# Altium schematic symbol library SCH - MCU - STM32 - ST MICROELECTRONICS STM32F469B(E-G-I)TX LQFP208.SchLib: 1 symbol
Pins are listed as number, name and electrical type; pins without a type are passive.

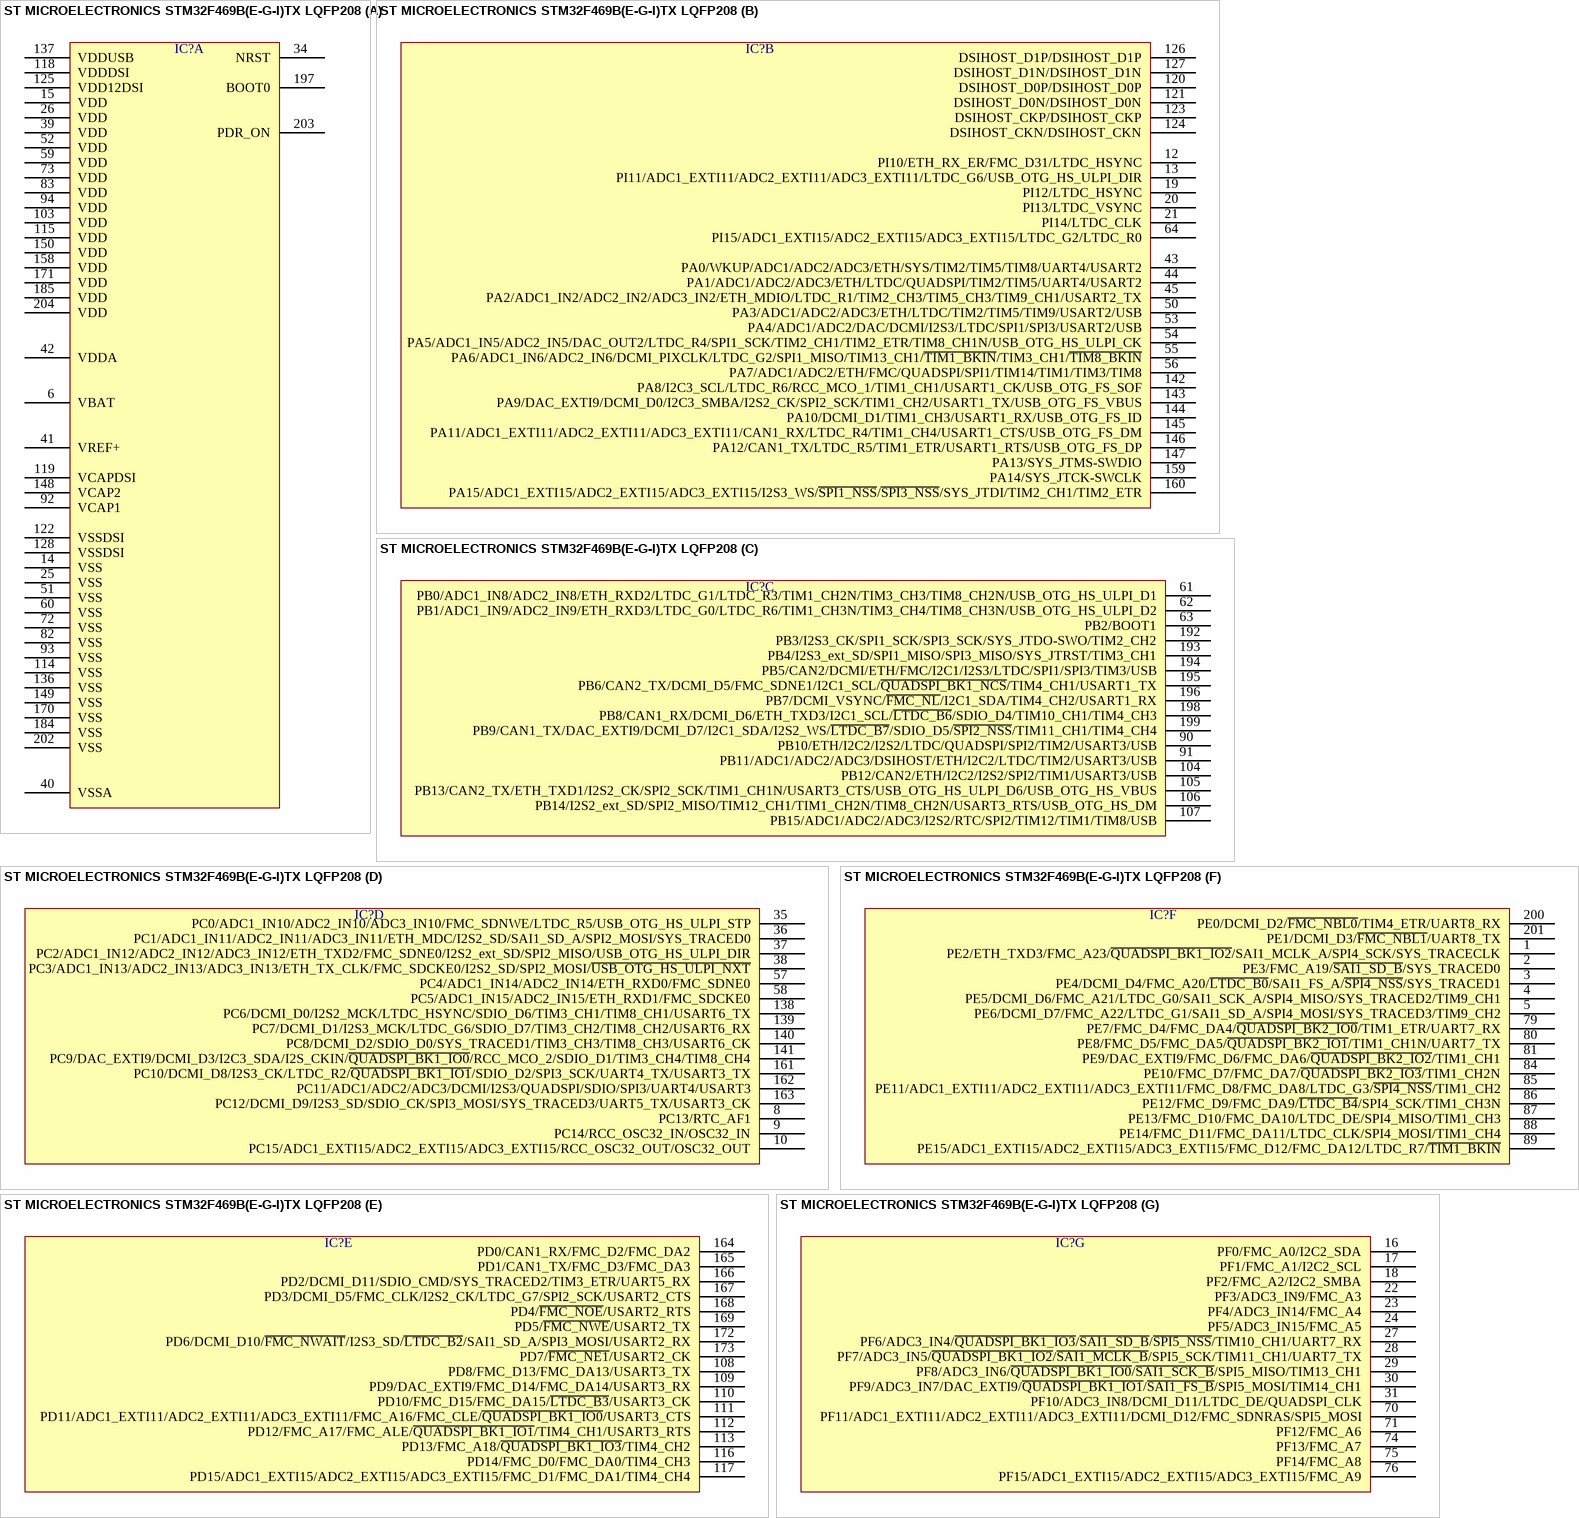
[diagram p0: symbol ST MICROELECTRONICS STM32F469B(E-G-I)TX LQFP208]

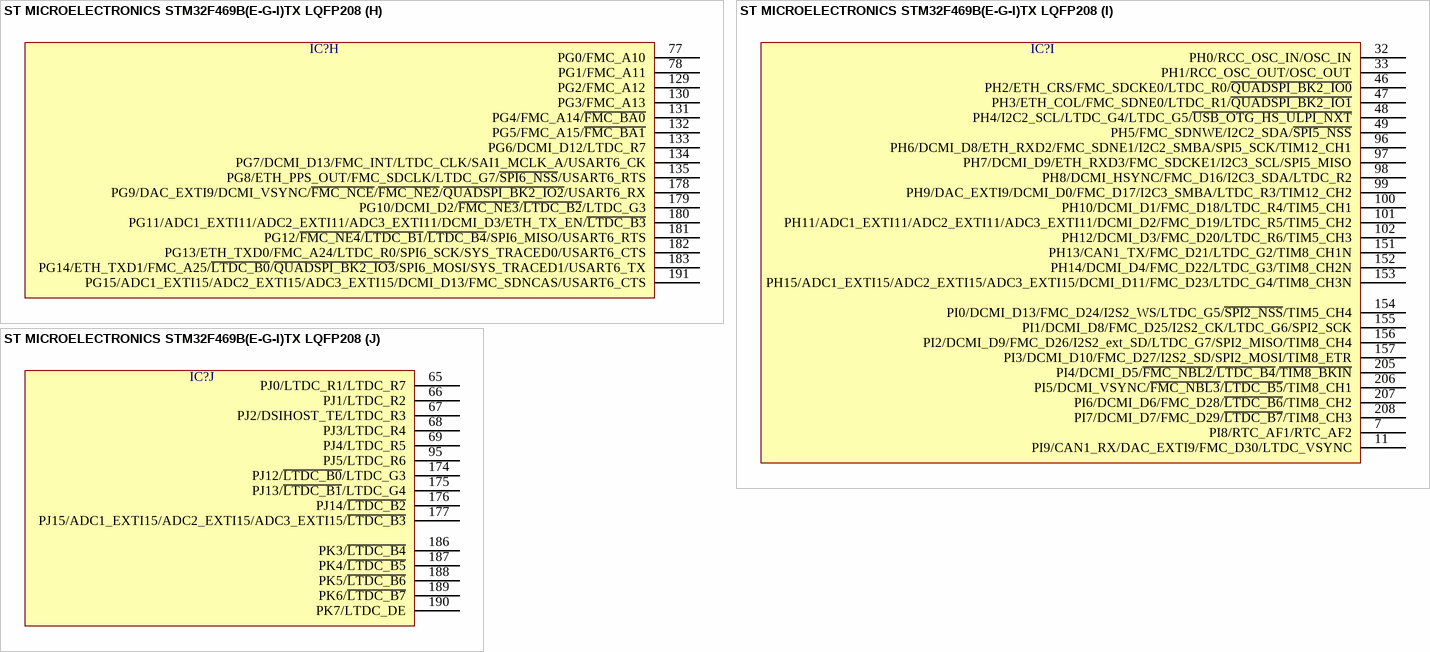
[diagram p1: symbol ST MICROELECTRONICS STM32F469B(E-G-I)TX LQFP208]

## ST MICROELECTRONICS STM32F469B(E-G-I)TX LQFP208
designator IC?  (value not drawn)
part A pins: 6 VBAT, 14 VSS, 15 VDD, 25 VSS, 26 VDD, 34 NRST, 39 VDD, 40 VSSA, 41 VREF+, 42 VDDA, 51 VSS, 52 VDD, 59 VDD, 60 VSS, 72 VSS, 73 VDD, 82 VSS, 83 VDD, 92 VCAP1, 93 VSS, 94 VDD, 103 VDD, 114 VSS, 115 VDD, 118 VDDDSI, 119 VCAPDSI, 122 VSSDSI, 125 VDD12DSI, 128 VSSDSI, 136 VSS, 137 VDDUSB, 148 VCAP2, 149 VSS, 150 VDD, 158 VDD, 170 VSS, 171 VDD, 184 VSS, 185 VDD, 197 BOOT0, 202 VSS, 203 PDR_ON, 204 VDD
part B pins: 12 PI10/ETH_RX_ER/FMC_D31/LTDC_HSYNC, 13 PI11/ADC1_EXTI11/ADC2_EXTI11/ADC3_EXTI11/LTDC_G6/USB_OTG_HS_ULPI_DIR, 19 PI12/LTDC_HSYNC, 20 PI13/LTDC_VSYNC, 21 PI14/LTDC_CLK, 43 PA0/WKUP/ADC1/ADC2/ADC3/ETH/SYS/TIM2/TIM5/TIM8/UART4/USART2, 44 PA1/ADC1/ADC2/ADC3/ETH/LTDC/QUADSPI/TIM2/TIM5/UART4/USART2, 45 PA2/ADC1_IN2/ADC2_IN2/ADC3_IN2/ETH_MDIO/LTDC_R1/TIM2_CH3/TIM5_CH3/TIM9_CH1/USART2_TX, 50 PA3/ADC1/ADC2/ADC3/ETH/LTDC/TIM2/TIM5/TIM9/USART2/USB, 53 PA4/ADC1/ADC2/DAC/DCMI/I2S3/LTDC/SPI1/SPI3/USART2/USB, 54 PA5/ADC1_IN5/ADC2_IN5/DAC_OUT2/LTDC_R4/SPI1_SCK/TIM2_CH1/TIM2_ETR/TIM8_CH1N/USB_OTG_HS_ULPI_CK, 55 PA6/ADC1_IN6/ADC2_IN6/DCMI_PIXCLK/LTDC_G2/SPI1_MISO/TIM13_CH1/~{TIM1_BKIN}/TIM3_CH1/~{TIM8_BKIN}, 56 PA7/ADC1/ADC2/ETH/FMC/QUADSPI/SPI1/TIM14/TIM1/TIM3/TIM8, 64 PI15/ADC1_EXTI15/ADC2_EXTI15/ADC3_EXTI15/LTDC_G2/LTDC_R0, 120 DSIHOST_D0P/DSIHOST_D0P, 121 DSIHOST_D0N/DSIHOST_D0N, 123 DSIHOST_CKP/DSIHOST_CKP, 124 DSIHOST_CKN/DSIHOST_CKN, 126 DSIHOST_D1P/DSIHOST_D1P, 127 DSIHOST_D1N/DSIHOST_D1N, 142 PA8/I2C3_SCL/LTDC_R6/RCC_MCO_1/TIM1_CH1/USART1_CK/USB_OTG_FS_SOF, 143 PA9/DAC_EXTI9/DCMI_D0/I2C3_SMBA/I2S2_CK/SPI2_SCK/TIM1_CH2/USART1_TX/USB_OTG_FS_VBUS, 144 PA10/DCMI_D1/TIM1_CH3/USART1_RX/USB_OTG_FS_ID, 145 PA11/ADC1_EXTI11/ADC2_EXTI11/ADC3_EXTI11/CAN1_RX/LTDC_R4/TIM1_CH4/USART1_CTS/USB_OTG_FS_DM, 146 PA12/CAN1_TX/LTDC_R5/TIM1_ETR/USART1_RTS/USB_OTG_FS_DP, 147 PA13/SYS_JTMS-SWDIO, 159 PA14/SYS_JTCK-SWCLK, 160 PA15/ADC1_EXTI15/ADC2_EXTI15/ADC3_EXTI15/I2S3_WS/~{SPI1_NSS}/~{SPI3_NSS}/SYS_JTDI/TIM2_CH1/TIM2_ETR
part C pins: 61 PB0/ADC1_IN8/ADC2_IN8/ETH_RXD2/LTDC_G1/LTDC_R3/TIM1_CH2N/TIM3_CH3/TIM8_CH2N/USB_OTG_HS_ULPI_D1, 62 PB1/ADC1_IN9/ADC2_IN9/ETH_RXD3/LTDC_G0/LTDC_R6/TIM1_CH3N/TIM3_CH4/TIM8_CH3N/USB_OTG_HS_ULPI_D2, 63 PB2/BOOT1, 90 PB10/ETH/I2C2/I2S2/LTDC/QUADSPI/SPI2/TIM2/USART3/USB, 91 PB11/ADC1/ADC2/ADC3/DSIHOST/ETH/I2C2/LTDC/TIM2/USART3/USB, 104 PB12/CAN2/ETH/I2C2/I2S2/SPI2/TIM1/USART3/USB, 105 PB13/CAN2_TX/ETH_TXD1/I2S2_CK/SPI2_SCK/TIM1_CH1N/USART3_CTS/USB_OTG_HS_ULPI_D6/USB_OTG_HS_VBUS, 106 PB14/I2S2_ext_SD/SPI2_MISO/TIM12_CH1/TIM1_CH2N/TIM8_CH2N/USART3_RTS/USB_OTG_HS_DM, 107 PB15/ADC1/ADC2/ADC3/I2S2/RTC/SPI2/TIM12/TIM1/TIM8/USB, 192 PB3/I2S3_CK/SPI1_SCK/SPI3_SCK/SYS_JTDO-SWO/TIM2_CH2, 193 PB4/I2S3_ext_SD/SPI1_MISO/SPI3_MISO/SYS_JTRST/TIM3_CH1, 194 PB5/CAN2/DCMI/ETH/FMC/I2C1/I2S3/LTDC/SPI1/SPI3/TIM3/USB, 195 PB6/CAN2_TX/DCMI_D5/FMC_SDNE1/I2C1_SCL/~{QUADSPI_BK1_NCS}/TIM4_CH1/USART1_TX, 196 PB7/DCMI_VSYNC/~{FMC_NL}/I2C1_SDA/TIM4_CH2/USART1_RX, 198 PB8/CAN1_RX/DCMI_D6/ETH_TXD3/I2C1_SCL/~{LTDC_B6}/SDIO_D4/TIM10_CH1/TIM4_CH3, 199 PB9/CAN1_TX/DAC_EXTI9/DCMI_D7/I2C1_SDA/I2S2_WS/~{LTDC_B7}/SDIO_D5/~{SPI2_NSS}/TIM11_CH1/TIM4_CH4
part D pins: 8 PC13/RTC_AF1, 9 PC14/RCC_OSC32_IN/OSC32_IN, 10 PC15/ADC1_EXTI15/ADC2_EXTI15/ADC3_EXTI15/RCC_OSC32_OUT/OSC32_OUT, 35 PC0/ADC1_IN10/ADC2_IN10/ADC3_IN10/FMC_SDNWE/LTDC_R5/USB_OTG_HS_ULPI_STP, 36 PC1/ADC1_IN11/ADC2_IN11/ADC3_IN11/ETH_MDC/I2S2_SD/SAI1_SD_A/SPI2_MOSI/SYS_TRACED0, 37 PC2/ADC1_IN12/ADC2_IN12/ADC3_IN12/ETH_TXD2/FMC_SDNE0/I2S2_ext_SD/SPI2_MISO/USB_OTG_HS_ULPI_DIR, 38 PC3/ADC1_IN13/ADC2_IN13/ADC3_IN13/ETH_TX_CLK/FMC_SDCKE0/I2S2_SD/SPI2_MOSI/~{USB_OTG_HS_ULPI_NXT}, 57 PC4/ADC1_IN14/ADC2_IN14/ETH_RXD0/FMC_SDNE0, 58 PC5/ADC1_IN15/ADC2_IN15/ETH_RXD1/FMC_SDCKE0, 138 PC6/DCMI_D0/I2S2_MCK/LTDC_HSYNC/SDIO_D6/TIM3_CH1/TIM8_CH1/USART6_TX, 139 PC7/DCMI_D1/I2S3_MCK/LTDC_G6/SDIO_D7/TIM3_CH2/TIM8_CH2/USART6_RX, 140 PC8/DCMI_D2/SDIO_D0/SYS_TRACED1/TIM3_CH3/TIM8_CH3/USART6_CK, 141 PC9/DAC_EXTI9/DCMI_D3/I2C3_SDA/I2S_CKIN/~{QUADSPI_BK1_IO0}/RCC_MCO_2/SDIO_D1/TIM3_CH4/TIM8_CH4, 161 PC10/DCMI_D8/I2S3_CK/LTDC_R2/~{QUADSPI_BK1_IO1}/SDIO_D2/SPI3_SCK/UART4_TX/USART3_TX, 162 PC11/ADC1/ADC2/ADC3/DCMI/I2S3/QUADSPI/SDIO/SPI3/UART4/USART3, 163 PC12/DCMI_D9/I2S3_SD/SDIO_CK/SPI3_MOSI/SYS_TRACED3/UART5_TX/USART3_CK
part E pins: 108 PD8/FMC_D13/FMC_DA13/USART3_TX, 109 PD9/DAC_EXTI9/FMC_D14/FMC_DA14/USART3_RX, 110 PD10/FMC_D15/FMC_DA15/~{LTDC_B3}/USART3_CK, 111 PD11/ADC1_EXTI11/ADC2_EXTI11/ADC3_EXTI11/FMC_A16/FMC_CLE/~{QUADSPI_BK1_IO0}/USART3_CTS, 112 PD12/FMC_A17/FMC_ALE/~{QUADSPI_BK1_IO1}/TIM4_CH1/USART3_RTS, 113 PD13/FMC_A18/~{QUADSPI_BK1_IO3}/TIM4_CH2, 116 PD14/FMC_D0/FMC_DA0/TIM4_CH3, 117 PD15/ADC1_EXTI15/ADC2_EXTI15/ADC3_EXTI15/FMC_D1/FMC_DA1/TIM4_CH4, 164 PD0/CAN1_RX/FMC_D2/FMC_DA2, 165 PD1/CAN1_TX/FMC_D3/FMC_DA3, 166 PD2/DCMI_D11/SDIO_CMD/SYS_TRACED2/TIM3_ETR/UART5_RX, 167 PD3/DCMI_D5/FMC_CLK/I2S2_CK/LTDC_G7/SPI2_SCK/USART2_CTS, 168 PD4/~{FMC_NOE}/USART2_RTS, 169 PD5/~{FMC_NWE}/USART2_TX, 172 PD6/DCMI_D10/~{FMC_NWAIT}/I2S3_SD/~{LTDC_B2}/SAI1_SD_A/SPI3_MOSI/USART2_RX, 173 PD7/~{FMC_NE1}/USART2_CK
part F pins: 1 PE2/ETH_TXD3/FMC_A23/~{QUADSPI_BK1_IO2}/SAI1_MCLK_A/SPI4_SCK/SYS_TRACECLK, 2 PE3/FMC_A19/~{SAI1_SD_B}/SYS_TRACED0, 3 PE4/DCMI_D4/FMC_A20/~{LTDC_B0}/SAI1_FS_A/~{SPI4_NSS}/SYS_TRACED1, 4 PE5/DCMI_D6/FMC_A21/LTDC_G0/SAI1_SCK_A/SPI4_MISO/SYS_TRACED2/TIM9_CH1, 5 PE6/DCMI_D7/FMC_A22/LTDC_G1/SAI1_SD_A/SPI4_MOSI/SYS_TRACED3/TIM9_CH2, 79 PE7/FMC_D4/FMC_DA4/~{QUADSPI_BK2_IO0}/TIM1_ETR/UART7_RX, 80 PE8/FMC_D5/FMC_DA5/~{QUADSPI_BK2_IO1}/TIM1_CH1N/UART7_TX, 81 PE9/DAC_EXTI9/FMC_D6/FMC_DA6/~{QUADSPI_BK2_IO2}/TIM1_CH1, 84 PE10/FMC_D7/FMC_DA7/~{QUADSPI_BK2_IO3}/TIM1_CH2N, 85 PE11/ADC1_EXTI11/ADC2_EXTI11/ADC3_EXTI11/FMC_D8/FMC_DA8/LTDC_G3/~{SPI4_NSS}/TIM1_CH2, 86 PE12/FMC_D9/FMC_DA9/~{LTDC_B4}/SPI4_SCK/TIM1_CH3N, 87 PE13/FMC_D10/FMC_DA10/LTDC_DE/SPI4_MISO/TIM1_CH3, 88 PE14/FMC_D11/FMC_DA11/LTDC_CLK/SPI4_MOSI/TIM1_CH4, 89 PE15/ADC1_EXTI15/ADC2_EXTI15/ADC3_EXTI15/FMC_D12/FMC_DA12/LTDC_R7/~{TIM1_BKIN}, 200 PE0/DCMI_D2/~{FMC_NBL0}/TIM4_ETR/UART8_RX, 201 PE1/DCMI_D3/~{FMC_NBL1}/UART8_TX
part G pins: 16 PF0/FMC_A0/I2C2_SDA, 17 PF1/FMC_A1/I2C2_SCL, 18 PF2/FMC_A2/I2C2_SMBA, 22 PF3/ADC3_IN9/FMC_A3, 23 PF4/ADC3_IN14/FMC_A4, 24 PF5/ADC3_IN15/FMC_A5, 27 PF6/ADC3_IN4/~{QUADSPI_BK1_IO3}/~{SAI1_SD_B}/~{SPI5_NSS}/TIM10_CH1/UART7_RX, 28 PF7/ADC3_IN5/~{QUADSPI_BK1_IO2}/~{SAI1_MCLK_B}/SPI5_SCK/TIM11_CH1/UART7_TX, 29 PF8/ADC3_IN6/~{QUADSPI_BK1_IO0}/~{SAI1_SCK_B}/SPI5_MISO/TIM13_CH1, 30 PF9/ADC3_IN7/DAC_EXTI9/~{QUADSPI_BK1_IO1}/~{SAI1_FS_B}/SPI5_MOSI/TIM14_CH1, 31 PF10/ADC3_IN8/DCMI_D11/LTDC_DE/QUADSPI_CLK, 70 PF11/ADC1_EXTI11/ADC2_EXTI11/ADC3_EXTI11/DCMI_D12/FMC_SDNRAS/SPI5_MOSI, 71 PF12/FMC_A6, 74 PF13/FMC_A7, 75 PF14/FMC_A8, 76 PF15/ADC1_EXTI15/ADC2_EXTI15/ADC3_EXTI15/FMC_A9
part H pins: 77 PG0/FMC_A10, 78 PG1/FMC_A11, 129 PG2/FMC_A12, 130 PG3/FMC_A13, 131 PG4/FMC_A14/~{FMC_BA0}, 132 PG5/FMC_A15/~{FMC_BA1}, 133 PG6/DCMI_D12/LTDC_R7, 134 PG7/DCMI_D13/FMC_INT/LTDC_CLK/SAI1_MCLK_A/USART6_CK, 135 PG8/ETH_PPS_OUT/FMC_SDCLK/LTDC_G7/~{SPI6_NSS}/USART6_RTS, 178 PG9/DAC_EXTI9/DCMI_VSYNC/~{FMC_NCE}/~{FMC_NE2}/~{QUADSPI_BK2_IO2}/USART6_RX, 179 PG10/DCMI_D2/~{FMC_NE3}/~{LTDC_B2}/LTDC_G3, 180 PG11/ADC1_EXTI11/ADC2_EXTI11/ADC3_EXTI11/DCMI_D3/ETH_TX_EN/~{LTDC_B3}, 181 PG12/~{FMC_NE4}/~{LTDC_B1}/~{LTDC_B4}/SPI6_MISO/USART6_RTS, 182 PG13/ETH_TXD0/FMC_A24/LTDC_R0/SPI6_SCK/SYS_TRACED0/USART6_CTS, 183 PG14/ETH_TXD1/FMC_A25/~{LTDC_B0}/~{QUADSPI_BK2_IO3}/SPI6_MOSI/SYS_TRACED1/USART6_TX, 191 PG15/ADC1_EXTI15/ADC2_EXTI15/ADC3_EXTI15/DCMI_D13/FMC_SDNCAS/USART6_CTS
part I pins: 7 PI8/RTC_AF1/RTC_AF2, 11 PI9/CAN1_RX/DAC_EXTI9/FMC_D30/LTDC_VSYNC, 32 PH0/RCC_OSC_IN/OSC_IN, 33 PH1/RCC_OSC_OUT/OSC_OUT, 46 PH2/ETH_CRS/FMC_SDCKE0/LTDC_R0/~{QUADSPI_BK2_IO0}, 47 PH3/ETH_COL/FMC_SDNE0/LTDC_R1/~{QUADSPI_BK2_IO1}, 48 PH4/I2C2_SCL/LTDC_G4/LTDC_G5/~{USB_OTG_HS_ULPI_NXT}, 49 PH5/FMC_SDNWE/I2C2_SDA/~{SPI5_NSS}, 96 PH6/DCMI_D8/ETH_RXD2/FMC_SDNE1/I2C2_SMBA/SPI5_SCK/TIM12_CH1, 97 PH7/DCMI_D9/ETH_RXD3/FMC_SDCKE1/I2C3_SCL/SPI5_MISO, 98 PH8/DCMI_HSYNC/FMC_D16/I2C3_SDA/LTDC_R2, 99 PH9/DAC_EXTI9/DCMI_D0/FMC_D17/I2C3_SMBA/LTDC_R3/TIM12_CH2, 100 PH10/DCMI_D1/FMC_D18/LTDC_R4/TIM5_CH1, 101 PH11/ADC1_EXTI11/ADC2_EXTI11/ADC3_EXTI11/DCMI_D2/FMC_D19/LTDC_R5/TIM5_CH2, 102 PH12/DCMI_D3/FMC_D20/LTDC_R6/TIM5_CH3, 151 PH13/CAN1_TX/FMC_D21/LTDC_G2/TIM8_CH1N, 152 PH14/DCMI_D4/FMC_D22/LTDC_G3/TIM8_CH2N, 153 PH15/ADC1_EXTI15/ADC2_EXTI15/ADC3_EXTI15/DCMI_D11/FMC_D23/LTDC_G4/TIM8_CH3N, 154 PI0/DCMI_D13/FMC_D24/I2S2_WS/LTDC_G5/~{SPI2_NSS}/TIM5_CH4, 155 PI1/DCMI_D8/FMC_D25/I2S2_CK/LTDC_G6/SPI2_SCK, 156 PI2/DCMI_D9/FMC_D26/I2S2_ext_SD/LTDC_G7/SPI2_MISO/TIM8_CH4, 157 PI3/DCMI_D10/FMC_D27/I2S2_SD/SPI2_MOSI/TIM8_ETR, 205 PI4/DCMI_D5/~{FMC_NBL2}/~{LTDC_B4}/~{TIM8_BKIN}, 206 PI5/DCMI_VSYNC/~{FMC_NBL3}/~{LTDC_B5}/TIM8_CH1, 207 PI6/DCMI_D6/FMC_D28/~{LTDC_B6}/TIM8_CH2, 208 PI7/DCMI_D7/FMC_D29/~{LTDC_B7}/TIM8_CH3
part J pins: 65 PJ0/LTDC_R1/LTDC_R7, 66 PJ1/LTDC_R2, 67 PJ2/DSIHOST_TE/LTDC_R3, 68 PJ3/LTDC_R4, 69 PJ4/LTDC_R5, 95 PJ5/LTDC_R6, 174 PJ12/~{LTDC_B0}/LTDC_G3, 175 PJ13/~{LTDC_B1}/LTDC_G4, 176 PJ14/~{LTDC_B2}, 177 PJ15/ADC1_EXTI15/ADC2_EXTI15/ADC3_EXTI15/~{LTDC_B3}, 186 PK3/~{LTDC_B4}, 187 PK4/~{LTDC_B5}, 188 PK5/~{LTDC_B6}, 189 PK6/~{LTDC_B7}, 190 PK7/LTDC_DE